# EAGLE library part PWR_MUX_TPS2116 (library !GPLIB_ACTIVE)
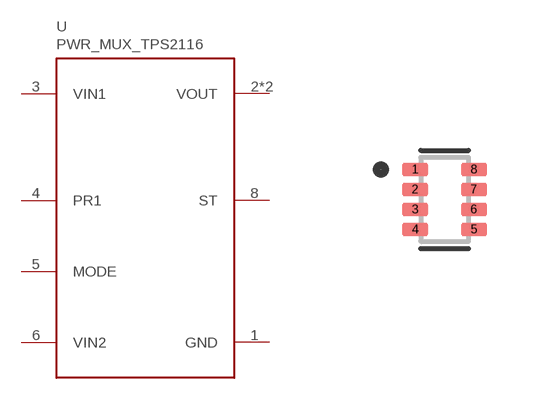
[diagram p137: symbol with the pads of SOTFL50P160X60-8N; footprint SOTFL50P160X60-8N]

Designator prefix U

## PWR_MUX_TPS2116_TPS2116  [SOTFL50P160X60-8N]
1  GND  pwr
2  VOUT  out
3  VIN1  in
4  PR1  in
5  MODE  in
6  VIN2  in
7  VOUT  out
8  ST  out

## Footprint SOTFL50P160X60-8N (pad centres in mm)
SOT-583-8 (DRL), 2.1 × 1.6 mm
smd 0.66 x 0.32: 1 -0.735,0.75; 2 -0.735,0.25; 3 -0.735,-0.25; 4 -0.735,-0.75; 5 0.735,-0.75; 6 0.735,-0.25; 7 0.735,0.25; 8 0.735,0.75